# Altium schematic symbol library MSP430_GPRS V1.0.SCHLIB: 21 symbols
Pins are listed as number, name and electrical type; pins without a type are passive.

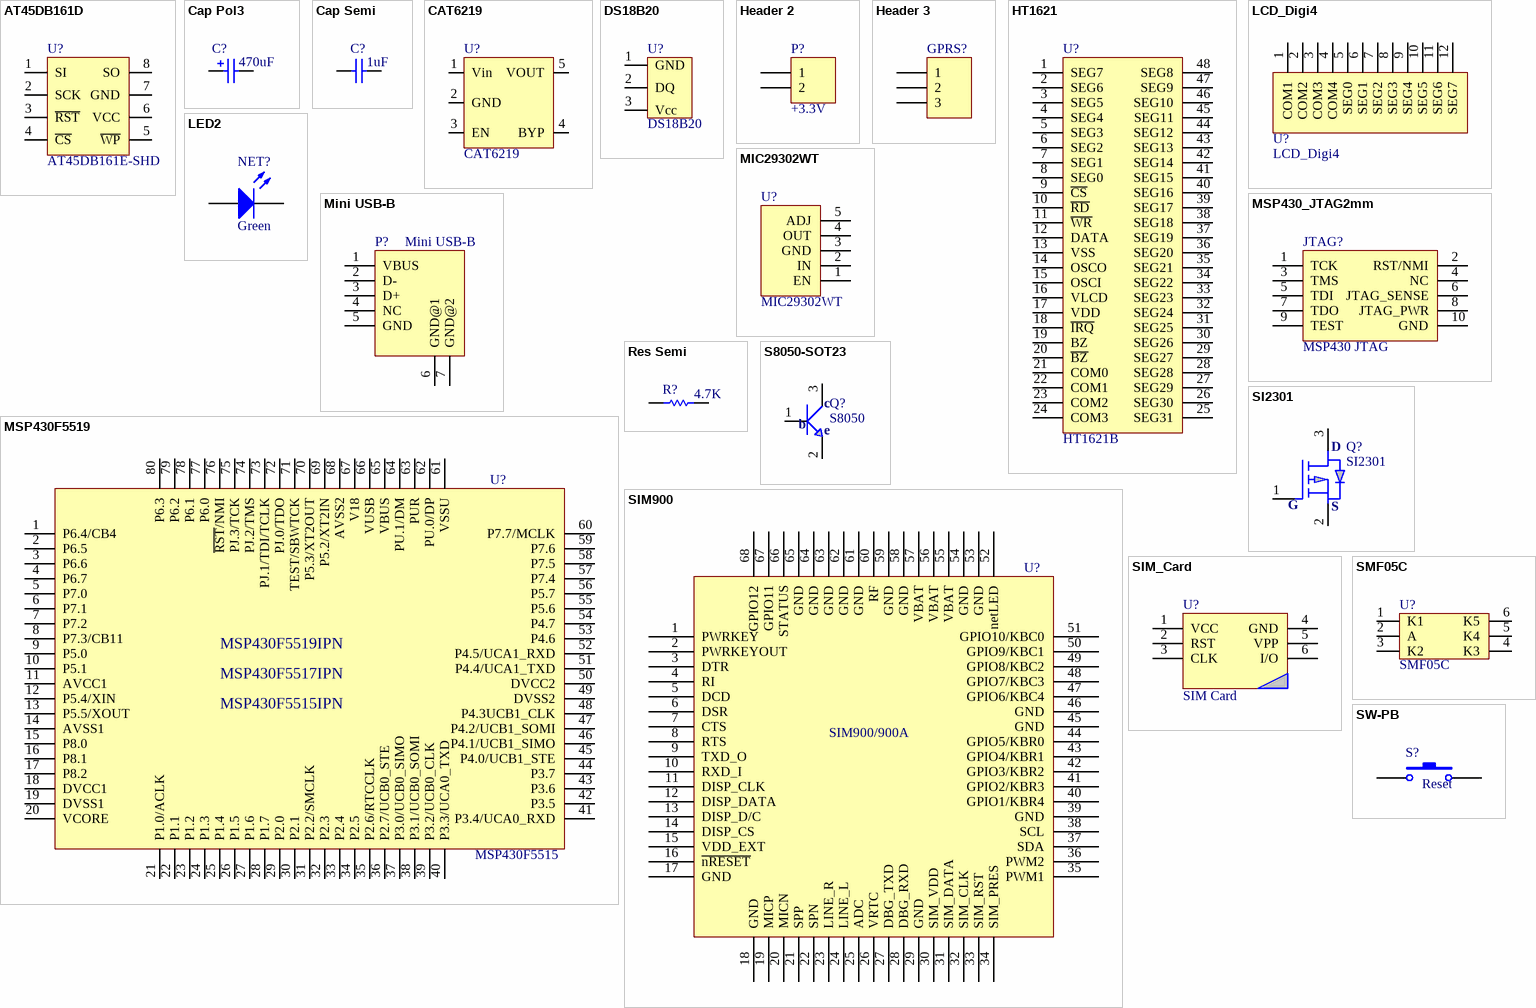
[diagram p0: symbols AT45DB161D to SW-PB]

## AT45DB161D
designator U?, comment AT45DB161E-SHD
16MBits Dataflash; Compay: ATMEL
footprint SOIC8-AT45DB-S2
pins: 1 SI, 2 SCK, 3 ~{RST}, 4 ~{CS}, 5 ~{WP}, 6 VCC, 7 GND, 8 SO

## Cap Pol3
designator C?  value 470uF  (hidden comment: Cap Pol3)
Polarized Capacitor (Surface Mount); Published: 8-Jun-2000; LatestRevisionDate: 17-Jul-2002; LatestRevisionNote: Re-released for DXP Platform.; PackageReference: C0805; Publisher: Altium Limited
simulation model CAP (Capacitor)
signal-integrity model Cap Pol
footprint CCT-7343-31
pins: 1, 2
1 alternate drawing of the same symbol

## Cap Semi
designator C?  value 1uF  (hidden comment: Cap Semi)
Capacitor (Semiconductor SIM Model); Published: 8-Jun-2000; LatestRevisionDate: 17-Jul-2002; LatestRevisionNote: Re-released for DXP Platform.; PackageReference: C1206; Publisher: Altium Limited
simulation model CAP (Semiconductor Capacitor)
signal-integrity model Cap Semi
footprint CC1608-0603 (Chip Capacitor; Body 1.6 x 0.8)
pins: 1, 2

## CAT6219
designator U?
2.3-5.5V input, 3.3V output, 500mA, 300mV dropout
footprint SOT23-5-MAX8867 (SOT23-5 regular, Top Mark=ACBD)
pins: 1 Vin, 2 GND, 3 EN, 4 BYP, 5 VOUT

## DS18B20
designator U?
1-Wire Digital Thermometer
footprint TO-92 (TO-92 for diode, DS18B20 and so on)
pins: 1 GND, 2 DQ, 3 Vcc

## Header 2
designator P?, comment +3.3V
Header, 2-Pin; LatestRevisionDate: 17-Jul-2002; LatestRevisionNote: Re-released for DXP Platform.; Publisher: Altium Limited
footprint HDR1X2 (Connector; Header; 2 Position)
signal-integrity model Connector
pins: 1, 2

## Header 3
designator GPRS?  (value not drawn)
Header, 3-Pin; LatestRevisionDate: 17-Jul-2002; LatestRevisionNote: Re-released for DXP Platform.; Publisher: Altium Limited
footprint HDR1X3 (Connector; Header; 3 Position)
signal-integrity model Connector
pins: 1, 2, 3

## HT1621
designator U?, comment HT1621B
LCD driver
footprint SOP48-HT1621B (LCD Driver)
pins: 1 SEG7, 2 SEG6, 3 SEG5, 4 SEG4, 5 SEG3, 6 SEG2, 7 SEG1, 8 SEG0, 9 ~{CS}, 10 ~{RD}, 11 ~{WR}, 12 DATA, 13 VSS, 14 OSCO, 15 OSCI, 16 VLCD, 17 VDD, 18 ~{IRQ}, 19 BZ, 20 ~{BZ}, 21 COM0, 22 COM1, 23 COM2, 24 COM3, 25 SEG31, 26 SEG30, 27 SEG29, 28 SEG28, 29 SEG27, 30 SEG26, 31 SEG25, 32 SEG24, 33 SEG23, 34 SEG22, 35 SEG21, 36 SEG20, 37 SEG19, 38 SEG18, 39 SEG17, 40 SEG16, 41 SEG15, 42 SEG14, 43 SEG13, 44 SEG12, 45 SEG11, 46 SEG10, 47 SEG9, 48 SEG8

## LCD_Digi4
designator U?
4 digital LCD for temperture
footprint SIP12_LCD
pins: 1 COM1, 2 COM2, 3 COM3, 4 COM4, 5 SEG0, 6 SEG1, 7 SEG2, 8 SEG3, 9 SEG4, 10 SEG5, 11 SEG6, 12 SEG7

## LED2
designator NET?, comment Green
Typical RED, GREEN, YELLOW, AMBER GaAs LED; Published: 8-Jun-2000; LatestRevisionDate: 17-Jul-2002; LatestRevisionNote: Re-released for DXP Platform.; Publisher: Altium Limited
footprint CC1608-0603 (Chip Capacitor; Body 1.6 x 0.8)
simulation model LED2 (Diode)
pins: 1 A, 2 K

## MIC29302WT
designator U?
2A,  adjustable LDO
footprint TO263_MIC29302
pins: 1 EN, 2 IN, 3 GND, 4 OUT, 5 ADJ

## Mini USB-B
designator P?
footprint MiniUSB-SOP
pins: 1 VBUS, 2 D-, 3 D+, 4 NC, 5 GND, 6 GND@1, 7 GND@2

## MSP430_JTAG2mm
designator JTAG?, comment MSP430 JTAG
footprint Header10_2mm
pins: 1 TCK, 2 RST/NMI, 3 TMS, 4 NC, 5 TDI, 6 JTAG_SENSE, 7 TDO, 8 JTAG_PWR, 9 TEST, 10 GND

## MSP430F5519
designator U?, comment MSP430F5515
MSP430F5519/17/15
footprint PN80-MSP430F5519 (PN80 fro MSP430F5519/17/15, F5529/27/25/21)
pins: 1 P6.4/CB4, 2 P6.5, 3 P6.6, 4 P6.7, 5 P7.0, 6 P7.1, 7 P7.2, 8 P7.3/CB11, 9 P5.0, 10 P5.1, 11 AVCC1, 12 P5.4/XIN, 13 P5.5/XOUT, 14 AVSS1, 15 P8.0, 16 P8.1, 17 P8.2, 18 DVCC1, 19 DVSS1, 20 VCORE, 21 P1.0/ACLK, 22 P1.1, 23 P1.2, 24 P1.3, 25 P1.4, 26 P1.5, 27 P1.6, 28 P1.7, 29 P2.0, 30 P2.1, 31 P2.2/SMCLK, 32 P2.3, 33 P2.4, 34 P2.5, 35 P2.6/RTCCLK, 36 P2.7/UCB0_STE, 37 P3.0/UCB0_SIMO, 38 P3.1/UCB0_SOMI, 39 P3.2/UCB0_CLK, 40 P3.3/UCA0_TXD, 41 P3.4/UCA0_RXD, 42 P3.5, 43 P3.6, 44 P3.7, 45 P4.0/UCB1_STE, 46 P4.1/UCB1_SIMO, 47 P4.2/UCB1_SOMI, 48 P4.3UCB1_CLK, 49 DVSS2, 50 DVCC2, 51 P4.4/UCA1_TXD, 52 P4.5/UCA1_RXD, 53 P4.6, 54 P4.7, 55 P5.6, 56 P5.7, 57 P7.4, 58 P7.5, 59 P7.6, 60 P7.7/MCLK, 61 VSSU, 62 PU.0/DP, 63 PUR, 64 PU.1/DM, 65 VBUS, 66 VUSB, 67 V18, 68 AVSS2, 69 P5.2/XT2IN, 70 P5.3/XT2OUT, 71 TEST/SBWTCK, 72 PJ.0/TDO, 73 PJ.1/TDI/TCLK, 74 PJ.2/TMS, 75 PJ.3/TCK, 76 ~{RST}/NMI, 77 P6.0, 78 P6.1, 79 P6.2, 80 P6.3
text: MSP430F5519IPN; MSP430F5517IPN; MSP430F5515IPN

## Res Semi
designator R?  value 4.7K  (hidden comment: Res Semi)
Semiconductor Resistor; Published: 8-Jun-2000; LatestRevisionDate: 17-Jul-2002; LatestRevisionNote: Re-released for DXP Platform.; Publisher: Altium Limited
footprint AXIAL-0.5 (Semiconductor Resistor; 2 Leads)
footprint CR1005-0402 (Chip Resistor; Body 1.1 x 0.5 mm (LxW typ))
footprint CR1608-0603 (Chip Resistor; Body 1.6 x 0.8 mm (LxW typ))
footprint CR2012-0805 (Chip Resistor; Body 2.0 x 1.3 mm (LxW typ))
footprint CR3216-1206 (Chip Resistor; Body 3.2 x 1.6 mm (LxW typ))
simulation model RES (Semiconductor Resistor)
signal-integrity model Res Semi
pins: 1, 2

## S8050-SOT23
designator Q?, comment S8050
NPN transistor, SOT-23  package
footprint SI2301-SOT123 (SOT-23)
pins: 1 Base, 2 Emit, 3 Collect
text: c; b; e

## SI2301
designator Q?
P-channel MOSFET
footprint SI2301-SOT123 (SOT-23)
pins: 1 G, 2 S, 3 D

## SIM900
designator U?, comment SIM900/900A
GPRS Module
footprint SIM900
pins: 1 PWRKEY, 2 PWRKEYOUT, 3 DTR, 4 RI, 5 DCD, 6 DSR, 7 CTS, 8 RTS, 9 TXD_O, 10 RXD_I, 11 DISP_CLK, 12 DISP_DATA, 13 DISP_D/C, 14 DISP_CS, 15 VDD_EXT, 16 ~{nRESET}, 17 GND, 18 GND, 19 MICP, 20 MICN, 21 SPP, 22 SPN, 23 LINE_R, 24 LINE_L, 25 ADC, 26 VRTC, 27 DBG_TXD, 28 DBG_RXD, 29 GND, 30 SIM_VDD, 31 SIM_DATA, 32 SIM_CLK, 33 SIM_RST, 34 SIM_PRES, 35 PWM1, 36 PWM2, 37 SDA, 38 SCL, 39 GND, 40 GPIO1/KBR4, 41 GPIO2/KBR3, 42 GPIO3/KBR2, 43 GPIO4/KBR1, 44 GPIO5/KBR0, 45 GND, 46 GND, 47 GPIO6/KBC4, 48 GPIO7/KBC3, 49 GPIO8/KBC2, 50 GPIO9/KBC1, 51 GPIO10/KBC0, 52 netLED, 53 GND, 54 GND, 55 VBAT, 56 VBAT, 57 VBAT, 58 GND, 59 GND, 60 RF, 61 GND, 62 GND, 63 GND, 64 GND, 65 GND, 66 STATUS, 67 GPIO11, 68 GPIO12

## SIM_Card
designator U?, comment SIM Card
footprint MicoSIM_Cover
pins: 1 VCC, 2 RST, 3 CLK, 4 GND, 5 VPP, 6 I/O

## SMF05C
designator U?
TVS Diode Array for ESD protection
footprint SC70-6L-SMF05C (SC70-6L for SMF05C)
pins: 1 K1, 2 A, 3 K2, 4 K3, 5 K4, 6 K5

## SW-PB
designator S?, comment Reset
Switch; Published: 24-Mar-1999; LatestRevisionDate: 17-Jul-2002; LatestRevisionNote: Re-released for DXP Platform.; Publisher: Altium Limited
footprint KEY_SOT
pins: 1, 2